# Altium footprint library E220-400T30S.PcbLib: 1 footprints
Each footprint in its own frame and in the unit in brackets; x right, y up, seen from the top. Pads: shape width x height; smd on the part's side, far side on the other; paste and mask are expansions set on the pad; w line width, h text height; cw(c..) or ccw(c..) is an arc to the next point about the centre after c.
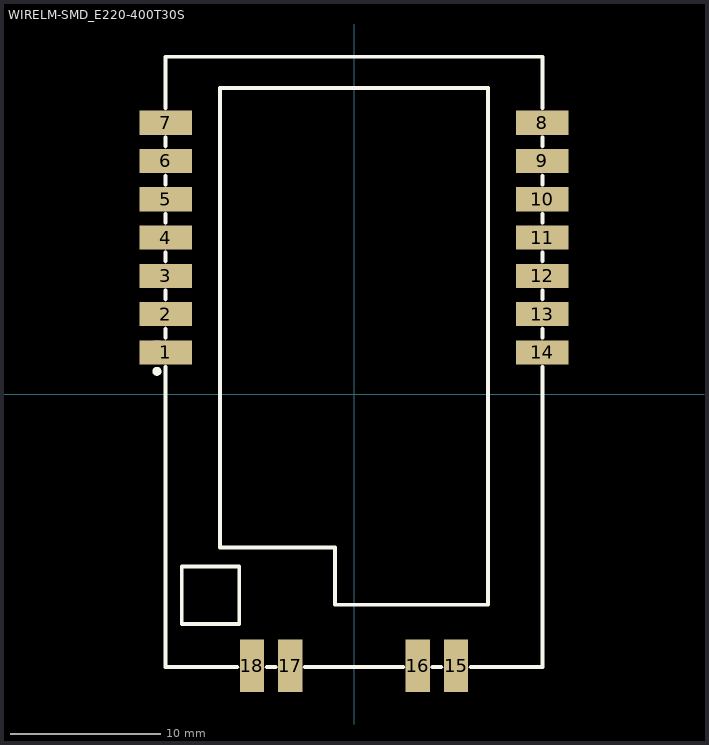
[diagram p0: the footprint, top view; thin cyan lines are the x and y axes]

## WIRELM-SMD_E220-400T30S [mm]
pads (18):
  rect 3.5x1.6 smd mask+0.051: 1(-12.5,2.78) 2(-12.5,5.32) 3(-12.5,7.86) 4(-12.5,10.4) 5(-12.5,12.94) 6(-12.5,15.48) 7(-12.5,18.02) 8(12.5,18.02) 9(12.5,15.48) 10(12.5,12.94) 11(12.5,10.4) 12(12.5,7.86) 13(12.5,5.32) 14(12.5,2.78)
  rect 1.6x3.5 smd mask+0.051: 15(6.77,-18.02) 16(4.23,-18.02) 17(-4.23,-18.02) 18(-6.77,-18.02)
Top Overlay:
  circle w0.3: c-13.081,1.524 r0.15
  lines w0.254: -12.5,1.799 -12.5,-18.1 -7.751,-18.1 ; -12.5,3.761 -12.5,4.339 ; -12.5,6.301 -12.5,6.879 ; -12.5,8.841 -12.5,9.419 ; -12.5,11.381 -12.5,11.959 ; -12.5,13.921 -12.5,14.499 ; -12.5,16.461 -12.5,17.039 ; -12.5,19.001 -12.5,22.4 12.5,22.4 12.5,19.001 ; -5.789,-18.1 -5.211,-18.1 ; -3.249,-18.1 3.249,-18.1 ; 5.211,-18.1 5.789,-18.1 ; 7.751,-18.1 12.5,-18.1 12.5,1.799 ; 12.5,3.761 12.5,4.339 ; 12.5,6.301 12.5,6.879 ; 12.5,8.841 12.5,9.419 ; 12.5,11.381 12.5,11.959 ; 12.5,13.921 12.5,14.499 ; 12.5,16.461 12.5,17.039 ; -11.43,-15.24 -11.43,-11.43 -7.62,-11.43 -7.62,-15.24 -11.43,-15.24 ; -8.89,-10.16 -8.89,20.32 8.89,20.32 8.89,-13.97 -1.27,-13.97 -1.27,-10.16 -8.89,-10.16
Mechanical 6:
  circle w0.8: c-13.081,2.794 r0.4
Mechanical 15:
  region: -11,3.53 -11,2.03 -12.5,2.03 -12.5,3.53
  region: -11,6.07 -11,4.57 -12.5,4.57 -12.5,6.07
  region: -11,8.61 -11,7.11 -12.5,7.11 -12.5,8.61
  region: -11,11.15 -11,9.65 -12.5,9.65 -12.5,11.15
  region: -11,13.69 -11,12.19 -12.5,12.19 -12.5,13.69
  region: -11,16.23 -11,14.73 -12.5,14.73 -12.5,16.23
  region: -11,18.77 -11,17.27 -12.5,17.27 -12.5,18.77
  region: 12.5,18.77 12.5,17.27 11,17.27 11,18.77
  region: 12.5,16.23 12.5,14.73 11,14.73 11,16.23
  region: 12.5,13.69 12.5,12.19 11,12.19 11,13.69
  region: 12.5,11.15 12.5,9.65 11,9.65 11,11.15
  region: 12.5,8.61 12.5,7.11 11,7.11 11,8.61
  region: 12.5,6.07 12.5,4.57 11,4.57 11,6.07
  region: 12.5,3.53 12.5,2.03 11,2.03 11,3.53
  region: 7.52,-18.1 6.02,-18.1 6.02,-16.6 7.52,-16.6
  region: 4.98,-18.1 3.48,-18.1 3.48,-16.6 4.98,-16.6
  region: -3.48,-18.1 -4.98,-18.1 -4.98,-16.6 -3.48,-16.6
  region: -6.02,-18.1 -7.52,-18.1 -7.52,-16.6 -6.02,-16.6
  region: -12.44,22.4 -12.44,22.425 -12.475,22.46 -12.525,22.46 -12.56,22.425 -12.56,22.4 -12.56,22.375 -12.525,22.34 -12.475,22.34 -12.44,22.375 -12.44,22.4
  lines w0.051: -12.5,-18.1 12.5,-18.1 12.5,22.4 -12.5,22.4 -12.5,-18.1
3D body "E220-400T30S.STEP": height 5.27, standoff 1.6, extent -12.627,-18.234 12.373,22.266